# Altium footprint library Sheye-Diode.PcbLib: 32 footprints (part 1 of 2)
Each footprint in its own frame and in the unit in brackets; x right, y up, seen from the top. Pads: shape width x height; smd on the part's side, far side on the other; paste and mask are expansions set on the pad; w line width, h text height; cw(c..) or ccw(c..) is an arc to the next point about the centre after c.
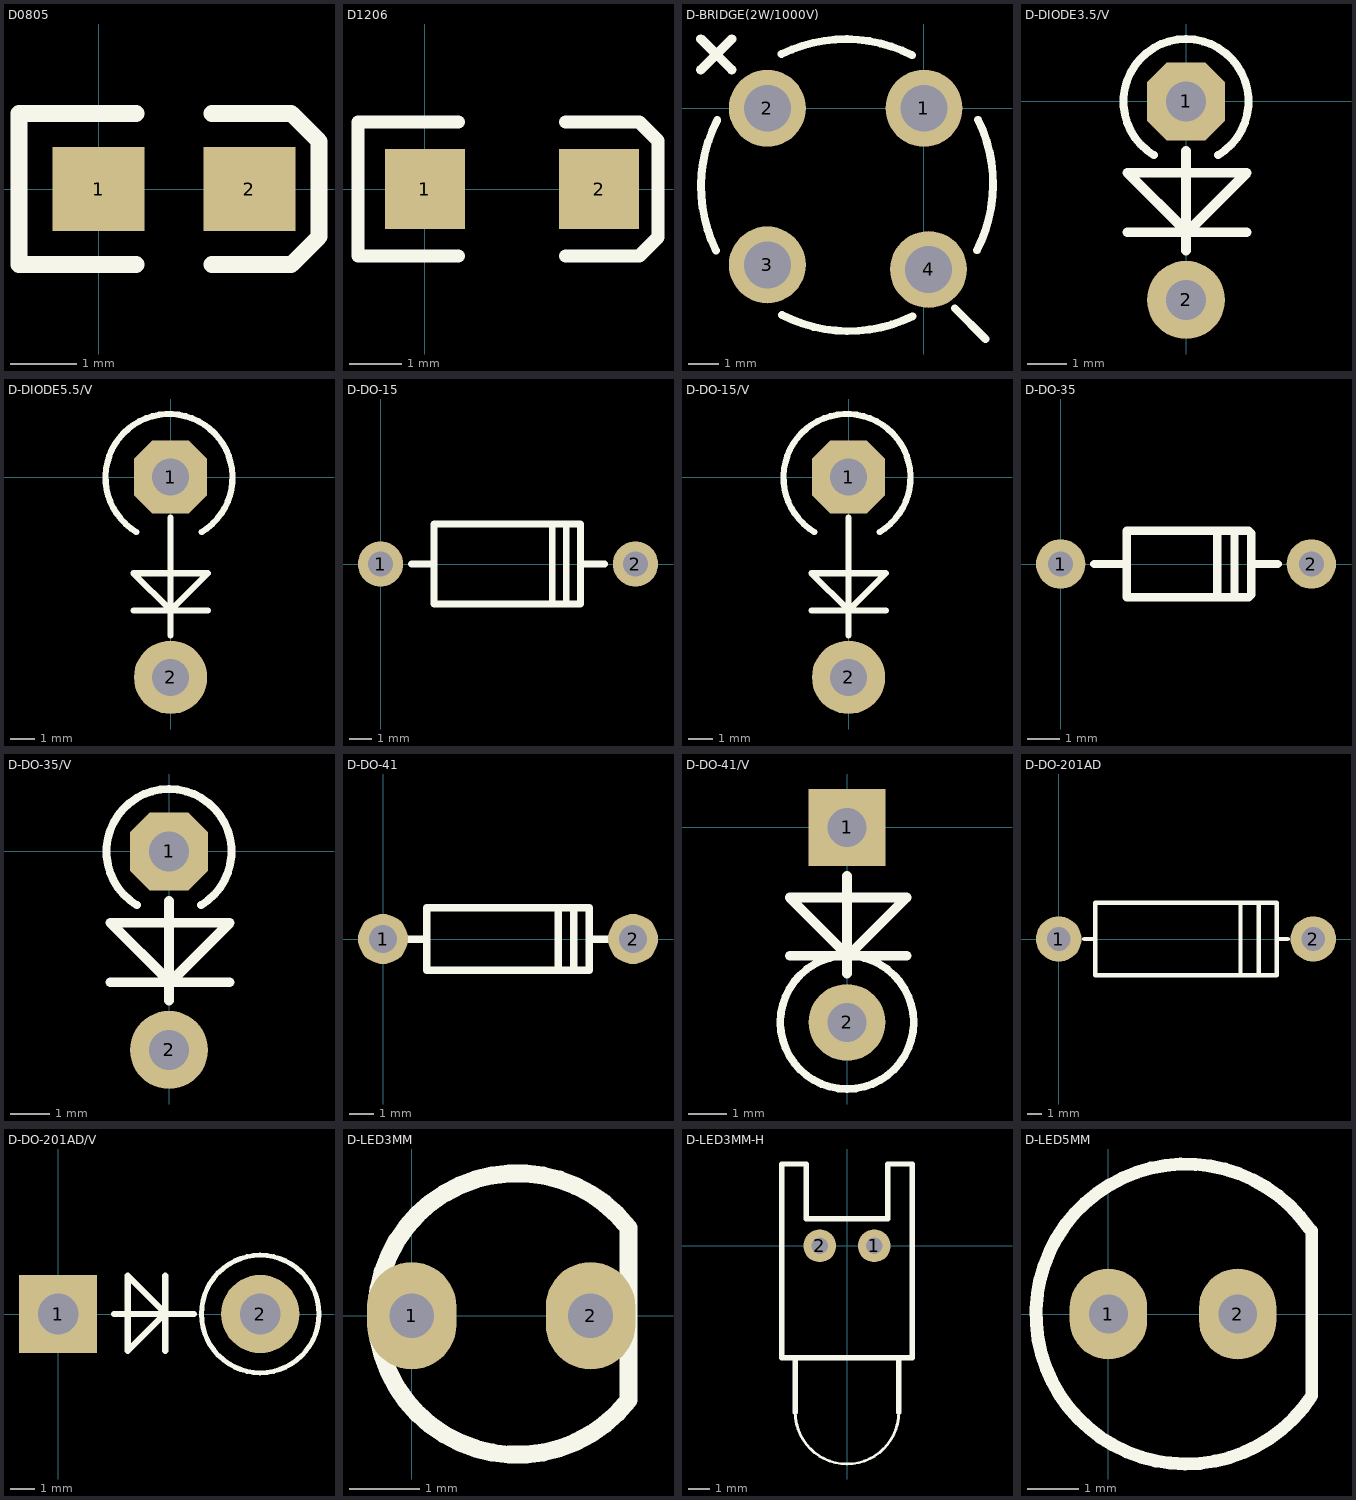
[diagram p0: the footprints below, top view; thin cyan lines are the x and y axes]

## D0805 [mil] "SOD-323"
pads (2):
  rect 55x50 smd: 1(0,0) 2(90,0)
Top Overlay:
  lines w10: 22.5,-45 -47.5,-45 -47.5,45 22.5,45 ; 67.5,-45 115,-45 131.5,-28.5 131.5,28.5 115,45 67.5,45
3D body: height 3.94, standoff 0, extent 81,-20 109,20
3D body: height 39.37, standoff 3.94, extent 84.5,-37 95,37
3D body: height 39.37, standoff 3.94, extent 67.5,-37 84.5,37
3D body: height 39.37, standoff 3.94, extent -8,-37 67.5,37
3D body: height 3.94, standoff 0, extent -20,-20 8,20

## D1206 [mil]
pads (2):
  rect 60x60 smd: 1(0,0) 2(130,0)
Top Overlay:
  lines w10: 25,-50 -50,-50 -50,50 25,50 ; 105,-50 145,-50 160,-50 174.02,-35.98 174.02,35.98 160,50 105,50
3D body: height 47.24, standoff 3.94, extent 123,-40 134,40
3D body: height 47.24, standoff 3.94, extent 105,-40 123,40
3D body: height 47.24, standoff 3.94, extent -7,-40 105,40
3D body: height 3.94, standoff 0, extent -22,-23 11,23
3D body: height 3.94, standoff 0, extent 117.5,-23 150.5,23

## D-BRIDGE(2W/1000V) [mm]
pads (4):
  round 2.5 hole 1.524: 1(0,0) 2(-5.091,0) 3(-5.091,-5.091) 4(0.149,-5.24)
Top Overlay:
  lines w0.254: -6.759,-4.628 cw(c-2.546,-2.546) -6.72,-0.386 ; -4.628,1.759 cw(c-2.546,-2.454) -0.386,1.72 ; -4.614,-6.72 ccw(c-2.454,-2.546) -0.372,-6.759 ; 1.001,-6.5 2,-7.5 ; 1.72,-4.614 ccw(c-2.454,-2.454) 1.759,-0.372
  lines w0.305: -7.25,1.25 -6.25,2.25 ; -7.25,2.25 -6.25,1.25
3D body: height 0.5, standoff -1, extent -5.604,-5.588 -4.606,-4.592
3D body: height 0.5, standoff -1, extent -0.347,-5.746 0.651,-4.75
3D body: height 0.5, standoff -1, extent -0.49,-0.498 0.508,0.498
3D body: height 0.5, standoff -1, extent -5.604,-0.488 -4.606,0.508
3D body: height 7, standoff 0, extent -7.497,-7.505 2.464,2.476

## D-DIODE3.5/V [mm]
pads (2):
  oct 2x2 hole 1.016: 1(0,0)
  round 2 hole 1.016: 2(0,-5.08)
Top Overlay:
  lines w0.203: -0.823,-1.372 cw(c0,0) 0.823,-1.372
  lines w0.254: -1.494,-3.348 1.554,-3.348 ; 0,-3.81 0,-1.27 ; -1.494,-1.824 0.03,-3.348 1.554,-1.824 -1.494,-1.824

## D-DIODE5.5/V [mm]
pads (2):
  oct 3x3 hole 1.524: 1(0,0)
  round 3 hole 1.524: 2(0,-8.2)
Top Overlay:
  lines w0.254: -1.524,-5.461 1.524,-5.461 ; -1.404,-2.247 cw(c-0.066,-0.017) 1.272,-2.247 ; 0,-6.477 0,-1.651 ; -1.524,-3.937 0,-5.461 1.524,-3.937 -1.524,-3.937

## D-DO-15 [mil]
pads (2):
  round 80 hole 45: 1(0,0) 2(452.76,0)
Top Overlay:
  lines w12: 55,0 95,0 ; 95,70.87 95,-70.87 355,-70.87 355,70.87 95.87,70.87 ; 305,-70.87 305,70.87 ; 330,-70.87 330,70.87 ; 355,0 398,0
3D body: height 86.49, standoff 55.12, extent 349.94,-15.43 468.06,16
3D body: height 70.87, standoff 0, extent 437,-15.72 468.37,15.72
3D body: height 86.49, standoff 55.12, extent -16.06,-16.43 102.06,15
3D body: height 70.87, standoff 0, extent -15.69,-16 15.69,15.43
3D body: height 141.17, standoff 0, extent 333.16,-70.45 352.84,71
3D body: height 141.17, standoff 0, extent 97.15,-70.73 294,70.73
3D body: height 141.17, standoff 0, extent 293.63,-70.73 333,70.73

## D-DO-15/V [mm]
pads (2):
  oct 3x3 hole 1.524: 1(0,0)
  round 3 hole 1.524: 2(0,-8.2)
Top Overlay:
  lines w0.254: -1.524,-5.461 1.524,-5.461 ; -1.404,-2.247 cw(c-0.066,-0.017) 1.272,-2.247 ; 0,-6.477 0,-1.651 ; -1.524,-3.937 0,-5.461 1.524,-3.937 -1.524,-3.937

## D-DO-35 [mm] "7.62mm IN4148"
height 1
pads (2):
  round 1.5 hole 0.762: 1(0,0) 2(7.62,0)
Top Overlay:
  lines w0.254: 1.016,0 2.007,0 ; 2.007,-1.016 2.007,1.016 ; 2.032,-1.016 5.715,-1.016 5.791,-0.94 5.791,0.94 5.715,1.016 2.032,1.016 ; 4.758,-1.016 4.758,1.016 ; 5.283,-1.016 5.283,1.016 ; 5.791,0 6.604,0
3D body: height 1.22, standoff 0.63, extent 5.405,-0.294 7.905,0.305
3D body: height 0.92, standoff 0, extent 7.315,-0.299 7.913,0.299
3D body: height 1.22, standoff 0.63, extent -0.31,-0.294 2.19,0.305
3D body: height 0.92, standoff 0, extent -0.299,-0.294 0.299,0.305
3D body: height 1.84, standoff 0, extent 5.456,-0.932 5.756,0.914
3D body: height 1.84, standoff 0, extent 2.003,-0.932 4.753,0.914
3D body: height 1.84, standoff 0, extent 4.756,-0.932 5.456,0.914

## D-DO-35/V [mm]
pads (2):
  oct 2x2 hole 1.016: 1(0,0)
  round 2 hole 1.016: 2(0,-5.08)
Top Overlay:
  lines w0.203: -0.823,-1.372 cw(c0,0) 0.823,-1.372
  lines w0.254: -1.494,-3.348 1.554,-3.348 ; 0,-3.81 0,-1.27 ; -1.494,-1.824 0.03,-3.348 1.554,-1.824 -1.494,-1.824

## D-DO-41 [mil]
pads (2):
  round 80 hole 45: 1(0,0) 2(400,0)
Top Overlay:
  lines w12: 40,0 70,0 ; 280,-50 280,50 ; 305,-50 305,50 ; 330,0 360,0 ; 70,-50 330,-50 330,50 70,50 70,-50
3D body: height 100.5, standoff -100, extent -15,-51 415,50

## D-DO-41/V [mm]
pads (2):
  rect 2x2 hole 1.016: 1(0,0)
  round 2 hole 1.016: 2(0,-5.08)
Top Overlay:
  circle w0.2: c0,-5.08 r1.737
  lines w0.254: -1.494,-3.348 1.554,-3.348 ; 0,-3.81 0,-1.27 ; -1.494,-1.824 1.554,-1.824 0.03,-3.348 -1.494,-1.824

## D-DO-201AD [mil]
pads (2):
  round 125 hole 65: 1(0,0) 2(700,0)
Top Overlay:
  lines w12: 70,0 100,0 ; 500,-100 500,100 ; 550,-100 550,100 ; 600,0 630,0 ; 100,-100 600,-100 600,100 100,100 100,-100
3D body: height 123.86, standoff 84.65, extent -19.9,-19.29 117.9,20
3D body: height 104.33, standoff 0, extent -19.61,-19 19.61,20.29
3D body: height 207.84, standoff 0, extent 557.8,-103.12 597.17,105.12
3D body: height 207.84, standoff 0, extent 105.04,-103.12 498.74,105.12
3D body: height 207.84, standoff 0, extent 498.74,-103.12 557.8,105.12
3D body: height 104.33, standoff 0, extent 680,-18.65 719.21,20.65
3D body: height 123.86, standoff 84.65, extent 581.1,-18.29 718.9,21

## D-DO-201AD/V [mil]
pads (2):
  rect 125x125 hole 65: 1(0,0)
  round 125 hole 65: 2(322.83,0)
Top Overlay:
  circle w7.87: c322.83,0 r93.91
  lines w10: 89.37,0 216.54,0 ; 171.18,-58.81 171.18,61.19 ; 111.18,-58.81 111.18,61.19 171.18,1.19 111.18,-58.81

## D-LED3MM [mil]
pads (2):
  oval 50x60 hole 25: 1(0,0) 2(100,0)
Top Overlay:
  lines w10: 120.96,48.96 121.18,48.73 121.18,-45.71 ; 121.21,49.17 ccw(c58.96,0.96) 121.26,-47.2
3D body: height 275.59, standoff 157.48, extent 1.25,-58 118.75,59.61
3D body: height 216.54, standoff 59.06, extent 1.1,-58.14 118.75,59.74
3D body: height 59.06, standoff 19.68, extent -18.43,-78.17 138.43,79
3D body: height 19.68, standoff -39.37, extent -8,-7.86 7.69,7.86
3D body: height 19.68, standoff -39.37, extent 92.16,-8 107.84,7.72

## D-LED3MM-H [mil] "Typical INFRARED GaAs LED; 2 Leads"
pads (2):
  round 60 hole 30: 1(50,0) 2(-50,0)
Top Overlay:
  lines w5: -95,-305 ccw(c0,-305) 95,-305
  lines w10: -95,-305 -95,-205 ; 95,-305 95,-205 ; -120,-205 -120,150 -75,150 -75,50 75,50 75,150 120,150 120,-205 -120,-205
3D body: height 19.68, standoff -39.37, extent 42.16,-7.72 57.84,8
3D body: height 275.59, standoff 19.68, extent -110,-182.26 110,45
3D body: height 19.68, standoff -39.37, extent -57.69,-7.86 -42,7.86
3D body: height 235.75, standoff 118.11, extent -58.88,-339.74 59,-182.26
3D body: height 236.22, standoff 118.11, extent -58.75,-402.61 58.75,-285

## D-LED5MM [mil]
pads (2):
  oval 60x70 hole 30: 1(0,0) 2(100,0)
Top Overlay:
  lines w10: 155.15,66.31 ccw(c60,0) 157.24,-63.2 157.24,64.22
3D body: height 433.07, standoff 236.22, extent -37.82,-100.01 158,96.01
3D body: height 334.65, standoff 59.06, extent -38.07,-100.23 158,96.23
3D body: height 59.06, standoff 19.68, extent -58,-117.75 177.29,118
3D body: height 19.68, standoff -39.37, extent -8,-7.86 7.69,7.86
3D body: height 19.68, standoff -39.37, extent 92.16,-8 107.84,7.72